# EAGLE library part PAM8403 (library mille-feuille)
FILTERLESS 3W CLASS-D STEREO AUDIO AMPLIFIER
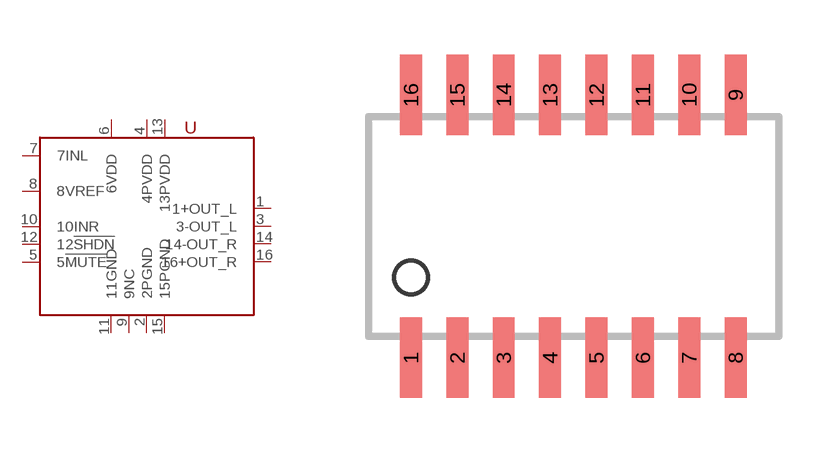
[diagram p38: symbol with the pads of SOP16; footprint SOP16]

Designator prefix U

## PAM8403  [SOP16]
1  1+OUT_L
2  2PGND  pwr
3  3-OUT_L
4  4PVDD  pwr
5  5!MUTE
6  6VDD  pwr
7  7INL
8  8VREF
9  9NC
10  10INR
11  11GND  pwr
12  12!SHDN
13  13PVDD  pwr
14  14-OUT_R
15  15PGND  pwr
16  16+OUT_R

## Footprint SOP16 (pad centres in mm)
SMALL OUTLINE PACKAGE
smd 0.6 x 2.2: 1 -4.445,-3.6; 2 -3.175,-3.6; 3 -1.905,-3.6; 4 -0.635,-3.6; 5 0.635,-3.6; 6 1.905,-3.6; 7 3.175,-3.6; 8 4.445,-3.6; 9 4.445,3.6; 10 3.175,3.6; 11 1.905,3.6; 12 0.635,3.6; 13 -0.635,3.6; 14 -1.905,3.6; 15 -3.175,3.6; 16 -4.445,3.6